# Altium footprint library PartsDatabaseV12.PcbLib: 97 footprints (part 6 of 7)
Each footprint in its own frame and in the unit in brackets; x right, y up, seen from the top. Pads: shape width x height; smd on the part's side, far side on the other; paste and mask are expansions set on the pad; w line width, h text height; cw(c..) or ccw(c..) is an arc to the next point about the centre after c.
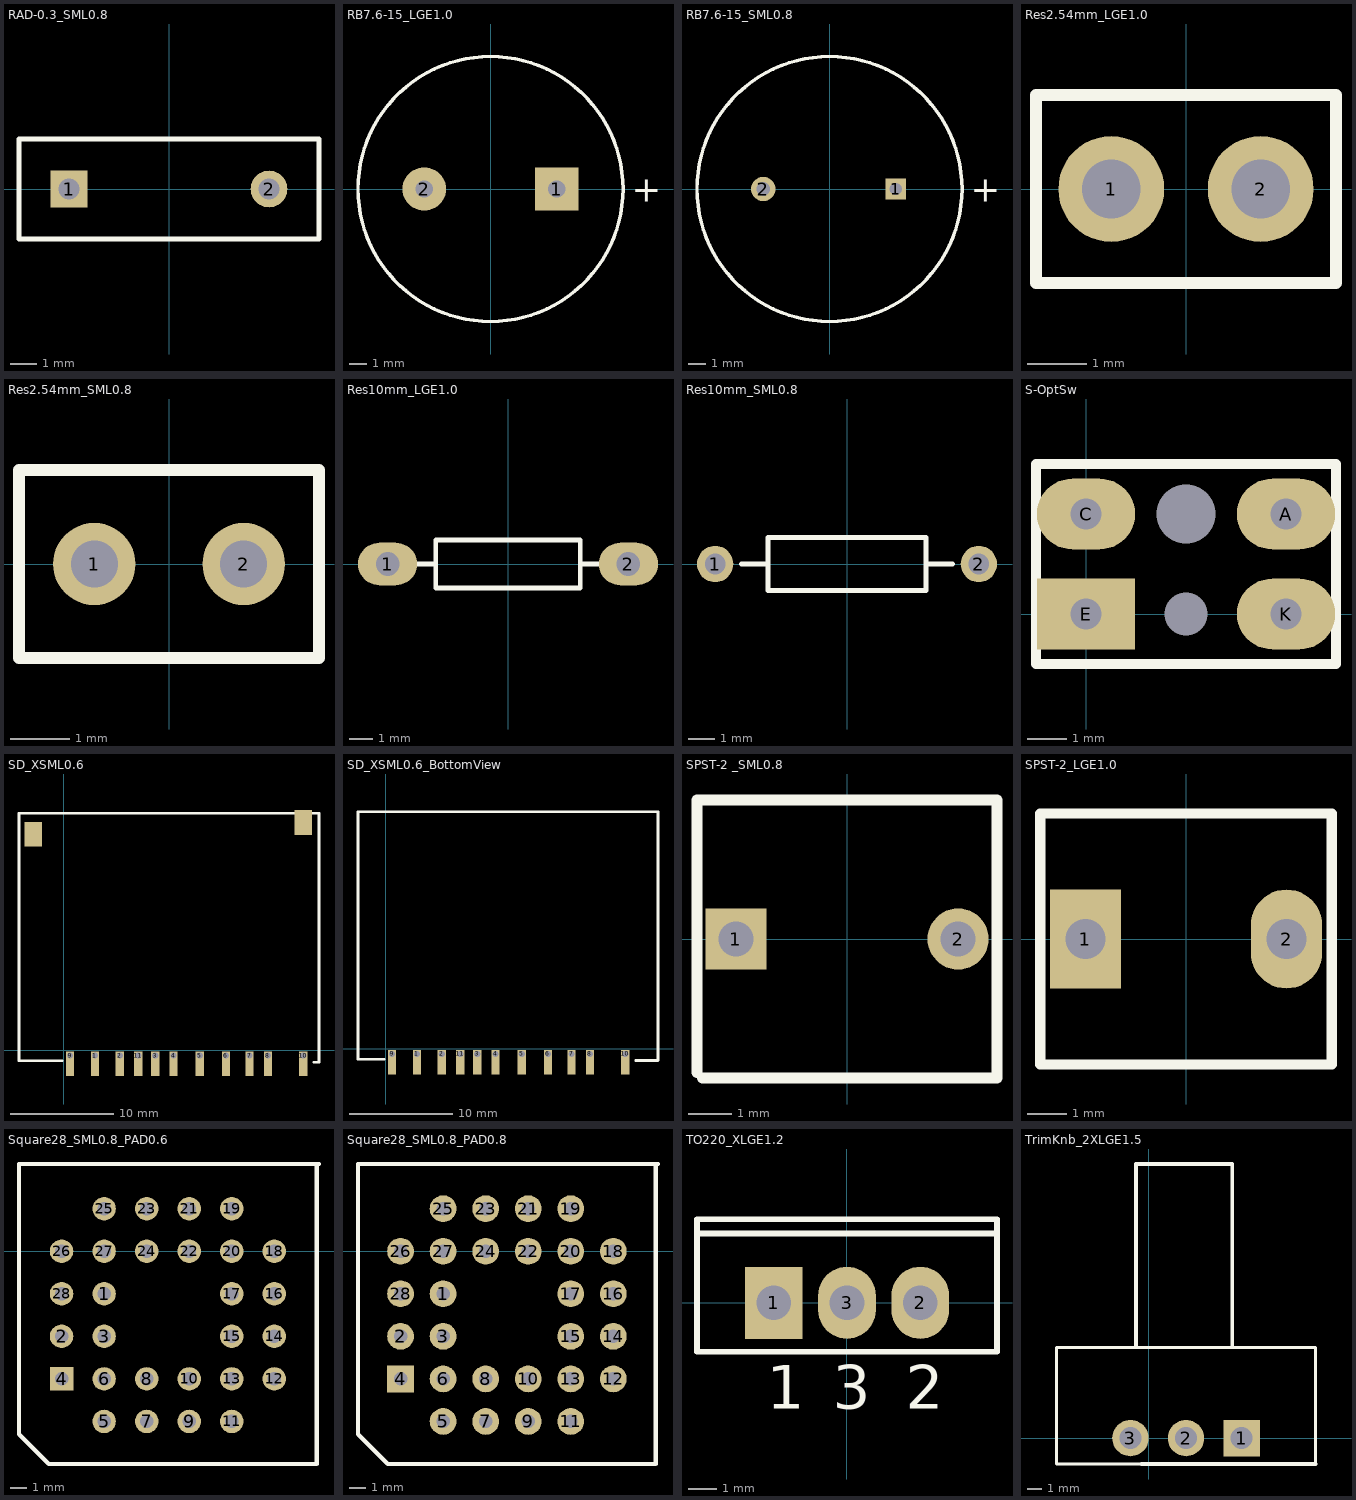
[diagram p5: the footprints below, top view; thin cyan lines are the x and y axes]

## RAD-0.3_SML0.8 [mm] "Radial Cap, Thru-Hole; 2 Leads; 0.3 in Pin Spacing"
height 6
pads (2):
  rect 1.4x1.4 hole 0.8: 1(-3.81,0)
  round 1.4 hole 0.8: 2(3.81,0)
Top Overlay:
  lines w0.2: -5.715,-1.905 5.715,-1.905 5.715,1.905 -5.715,1.905 -5.715,-1.905

## RB7.6-15_LGE1.0 [mm] "Polarized Capacitor (Radial); 2 Leads"
pads (2):
  rect 2.5x2.5 hole 1: 1(3.81,0)
  round 2.5 hole 1: 2(-3.81,0)
Top Overlay:
  circle w0.2: c0,0 r7.62
  text "+" at 8.132,-0.737 h1.5

## RB7.6-15_SML0.8 [mm] "Polarized Capacitor (Radial); 2 Leads"
pads (2):
  rect 1.2x1.2 hole 0.7: 1(3.81,0)
  round 1.4 hole 0.8: 2(-3.81,0)
Top Overlay:
  circle w0.2: c0,0 r7.62
  text "+" at 8.132,-0.737 h1.5

## Res2.54mm_LGE1.0 [mm] "Resistor,Thru-Hole, Dipped Radial; Body 5.1 x 3.2 mm (WxT) Pin Spacing 2.54 mm (typ)"
pads (2):
  round 1.8 hole 1: 1(-1.27,0) 2(1.27,0)
Top Overlay:
  lines w0.2: -2.55,-1.6 2.55,-1.6 2.55,1.6 -2.55,1.6 -2.55,-1.6

## Res2.54mm_SML0.8 [mm] "Resistor,Thru-Hole, Dipped Radial; Body 5.1 x 3.2 mm (WxT) Pin Spacing 2.54 mm (typ)"
pads (2):
  round 1.4 hole 0.8: 1(-1.27,0) 2(1.27,0)
Top Overlay:
  lines w0.2: -2.55,-1.6 2.55,-1.6 2.55,1.6 -2.55,1.6 -2.55,-1.6

## Res10mm_LGE1.0 [mm] "Axial Device, Thru-Hole; 2 Leads; 0.4 in Pin Spacing"
pads (2):
  oval 2.5x1.8 hole 1: 1(-5.08,0) 2(5.08,0)
Top Overlay:
  lines w0.2: -4.064,0 -3.048,0 ; 3.048,0 4.064,0 ; -3.048,-1.016 3.048,-1.016 3.048,1.016 -3.048,1.016 -3.048,-1.016

## Res10mm_SML0.8 [mm] "Axial Device, Thru-Hole; 2 Leads; 0.4 in Pin Spacing"
pads (2):
  round 1.4 hole 0.8: 1(-5.08,0) 2(5.08,0)
Top Overlay:
  lines w0.2: -4.064,0 -3.048,0 ; 3.048,0 4.064,0 ; -3.048,-1.016 3.048,-1.016 3.048,1.016 -3.048,1.016 -3.048,-1.016

## S-OptSw [mm]
pads (6):
  round 0 hole 1.5: 5(2.54,2.54)
  round 0 hole 1.1: 6(2.54,0)
  oval 2.5x1.8 hole 0.8: A(5.08,2.54) C(0,2.54) K(5.08,0)
  rect 2.5x1.8 hole 0.8: E(0,0)
Top Overlay:
  lines w0.254: -1.27,-1.27 -1.27,3.81 6.35,3.81 6.35,-1.27 -1.27,-1.27

## SD_XSML0.6 [mm] "SD card, surface mount"
pads (13):
  rect 0.8x2.4 hole 0.6 copper offset 0,-0.8: 1(3.048,-0.508) 2(5.461,-0.508) 3(8.89,-0.508) 4(10.668,-0.508) 5(13.208,-0.508) 6(15.748,-0.508) 7(18.034,-0.508) 8(19.812,-0.508) 9(0.635,-0.508) 10(23.241,-0.508) 11(7.239,-0.508)
  rect 1.7x2.4 smd: ""(-2.921,20.955) ""(23.241,22.098)
Top Overlay:
  lines w0.254: -0.127,-1.016 -4.318,-1.016 -4.318,22.987 24.765,22.987 24.765,-1.143 24.257,-1.143

## SD_XSML0.6_BottomView [mm] "SD card, surface mount"
pads (11):
  rect 0.8x2.4 hole 0.6 copper offset 0,-0.8: 1(3.048,-0.508) 2(5.461,-0.508) 3(8.89,-0.508) 4(10.668,-0.508) 5(13.208,-0.508) 6(15.748,-0.508) 7(18.034,-0.508) 8(19.812,-0.508) 9(0.635,-0.508) 10(23.241,-0.508) 11(7.239,-0.508)
Top Overlay:
  lines w0.254: -0.127,-1.016 -2.667,-1.016 -2.667,22.987 26.416,22.987 26.416,-1.143 24.257,-1.143

## SPST-2 _SML0.8 [mm] "Circuit Breaker; 2 Leads"
pads (2):
  rect 1.4x1.4 hole 0.8: 1(-2.54,0)
  round 1.4 hole 0.8: 2(2.54,0)
Top Overlay:
  lines w0.254: -3.429,-3.048 -3.429,3.175 3.175,3.175 3.429,3.175 3.429,-3.175 -3.302,-3.175

## SPST-2_LGE1.0 [mm] "Circuit Breaker; 2 Leads"
pads (2):
  rect 1.8x2.5 hole 1: 1(-2.54,0)
  oval 1.8x2.5 hole 1: 2(2.54,0)
Top Overlay:
  lines w0.254: 3.429,3.175 3.683,3.175 ; 3.683,3.175 3.683,-3.175 -3.683,-3.175 -3.683,3.175 3.683,3.175

## Square28_SML0.8_PAD0.6 [mm] "DIP; 28 Rectangular Pins; Row Space 7.62 mm; Pitch 2.54 mm"
height 11.94
pads (28):
  round 1.4 hole 0.8: 1(-13.97,-2.54) 2(-16.51,-5.08) 3(-13.97,-5.08) 5(-13.97,-10.16) 6(-13.97,-7.62) 7(-11.43,-10.16) 8(-11.43,-7.62) 9(-8.89,-10.16) 10(-8.89,-7.62) 11(-6.35,-10.16) 12(-3.81,-7.62) 13(-6.35,-7.62) 14(-3.81,-5.08) 15(-6.35,-5.08) 16(-3.81,-2.54) 17(-6.35,-2.54) 18(-3.81,0) 19(-6.35,2.54) 20(-6.35,0) 21(-8.89,2.54) 22(-8.89,0) 23(-11.43,2.54) 24(-11.43,0) 25(-13.97,2.54) 26(-16.51,0) 27(-13.97,0) 28(-16.51,-2.54)
  rect 1.4x1.4 hole 0.8: 4(-16.51,-7.62)
Top Overlay:
  lines w0.25: -19.05,-8.763 -19.05,5.207 -1.143,5.207
  lines w0.254: -19.05,-8.636 -19.05,-10.922 -17.272,-12.7 -1.27,-12.7 -1.27,5.207

## Square28_SML0.8_PAD0.8 [mm] "DIP; 28 Rectangular Pins; Row Space 7.62 mm; Pitch 2.54 mm"
height 11.94
pads (28):
  round 1.6 hole 0.8: 1(-13.97,-2.54) 2(-16.51,-5.08) 3(-13.97,-5.08) 5(-13.97,-10.16) 6(-13.97,-7.62) 7(-11.43,-10.16) 8(-11.43,-7.62) 9(-8.89,-10.16) 10(-8.89,-7.62) 11(-6.35,-10.16) 12(-3.81,-7.62) 13(-6.35,-7.62) 14(-3.81,-5.08) 15(-6.35,-5.08) 16(-3.81,-2.54) 17(-6.35,-2.54) 18(-3.81,0) 19(-6.35,2.54) 20(-6.35,0) 21(-8.89,2.54) 22(-8.89,0) 23(-11.43,2.54) 24(-11.43,0) 25(-13.97,2.54) 26(-16.51,0) 27(-13.97,0) 28(-16.51,-2.54)
  rect 1.6x1.6 hole 0.8: 4(-16.51,-7.62)
Top Overlay:
  lines w0.25: -19.05,-8.763 -19.05,5.207 -1.143,5.207
  lines w0.254: -19.05,-8.636 -19.05,-10.922 -17.272,-12.7 -1.27,-12.7 -1.27,5.207

## TO220_XLGE1.2 [mm] "TO, Thru-Hole, Vertical, Heatsink Mounted; 3 In-Line Leads; Pitch 2.54 mm; Pin sequence 1, 3, 2"
height 19.7
pads (3):
  rect 2x2.5 hole 1.2: 1(-2.54,0)
  oval 2x2.5 hole 1.2: 2(2.54,0) 3(0,0)
Top Overlay:
  lines w0.2: -5.2,2.4 5.2,2.4 ; -5.2,-1.7 -5.2,2.9 5.2,2.9 5.2,-1.7 -5.2,-1.7
  text "1" at -2.79,-3.675 h1.5
  text "2" at 2.04,-3.675 h1.5
  text "3" at -0.5,-3.675 h1.5

## TrimKnb_2XLGE1.5 [mm] "Variable Resistor, Thru-Hole, 3 Leads, knob"
pads (3):
  rect 2.5x2.5 hole 1.5: 1(6.35,0)
  round 2.5 hole 1.5: 2(2.54,0) 3(-1.27,0)
Top Overlay:
  lines w0.2: -0.635,-1.778 -2.064,-1.778 -4.921,-1.778 -6.35,-1.778 -6.35,6.223 11.43,6.223 11.43,-1.651
  lines w0.254: -0.889,6.223 -0.889,18.796 5.715,18.796 5.715,6.223 ; -0.508,-1.778 11.43,-1.778